# Altium footprint library ATSAMD11C14A-SSNT.PcbLib: 1 footprints
Each footprint in its own frame and in the unit in brackets; x right, y up, seen from the top. Pads: shape width x height; smd on the part's side, far side on the other; paste and mask are expansions set on the pad; w line width, h text height; cw(c..) or ccw(c..) is an arc to the next point about the centre after c.
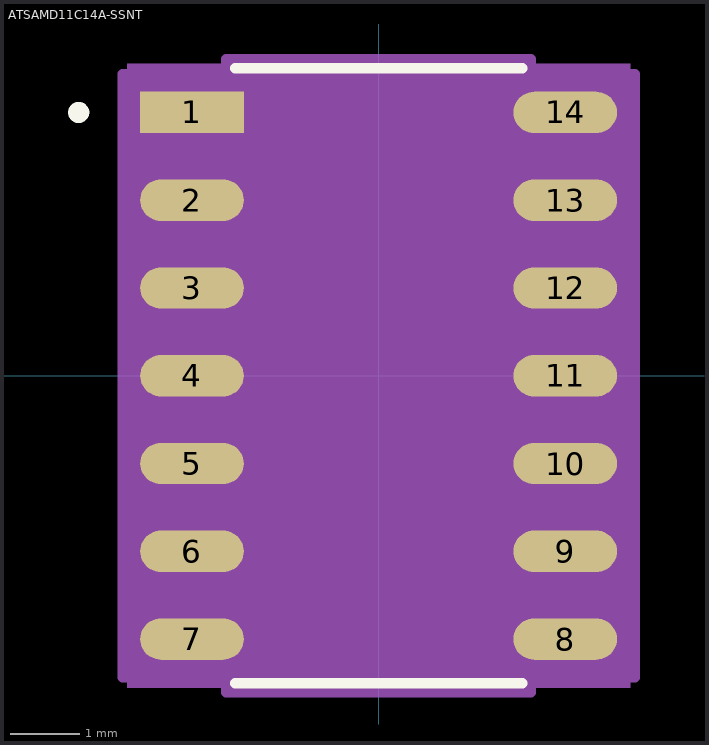
[diagram p0: the footprint, top view; thin cyan lines are the x and y axes]

## ATSAMD11C14A-SSNT [mm]
pads (14):
  rect 1.5x0.6 smd paste+0 mask+0: 1(-2.7,3.81)
  oval 1.5x0.6 smd paste+0 mask+0: 2(-2.7,2.54) 3(-2.7,1.27) 4(-2.7,0) 5(-2.7,-1.27) 6(-2.7,-2.54) 7(-2.7,-3.81) 8(2.7,-3.81) 9(2.7,-2.54) 10(2.7,-1.27) 11(2.7,0) 12(2.7,1.27) 13(2.7,2.54) 14(2.7,3.81)
Top Overlay:
  circle w0.152: c-4.339,3.81 r0.076
  lines w0.152: -2.077,-4.452 2.077,-4.452 ; -2.077,4.452 2.077,4.452
Mechanical 5:
  region: 3.641,-4.516 -3.641,-4.516 -3.641,4.516 3.641,4.516
Mechanical 13:
  circle w0: c-1.696,3.81 r0.038
  lines w0: -0.305,4.325 ccw(c0,4.325) 0.305,4.325
  lines w0.025: -1.95,-4.325 1.95,-4.325 1.95,4.325 -1.95,4.325 -1.95,-4.325
Mechanical 15:
  region: -2.204,-4.364 -3.704,-4.364 -3.704,4.364 -2.204,4.364 -2.204,4.579 2.204,4.579 2.204,4.364 3.704,4.364 3.704,-4.364 2.204,-4.364 2.204,-4.579 -2.204,-4.579
  lines w0.152: -3.704,-4.364 -3.704,4.364 -2.204,4.364 -2.204,4.579 2.204,4.579 2.204,4.364 3.704,4.364 3.704,-4.364 2.204,-4.364 2.204,-4.579 -2.204,-4.579 -2.204,-4.364 -3.704,-4.364
3D body "SOIC14_SL_MCH.step": height 1.75, standoff 0, extent -3.1,-4.325 3.1,4.325